# EAGLE library part SWITCH2 (library maruchan)
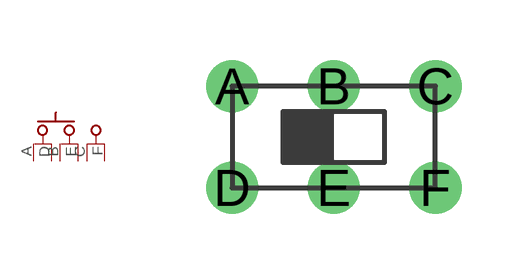
[diagram p2: symbol with the pads of SWITCH2; footprint SWITCH2]

Designator prefix -

## SWITCH2  [SWITCH2]
A  A
B  B
C  C
D  D
E  E
F  F

## Footprint SWITCH2 (pad centres in mm)
drill 0.8 round: A -2.54,1.27; B 0,1.27; C 2.54,1.27
drill 0.8 pad 1.27 round: D -2.54,-1.27; E 0,-1.27; F 2.54,-1.27